# EAGLE library part C8051F016 (library micro-silabs)
Mixed-Signal 32KB ISP FLASH MCU
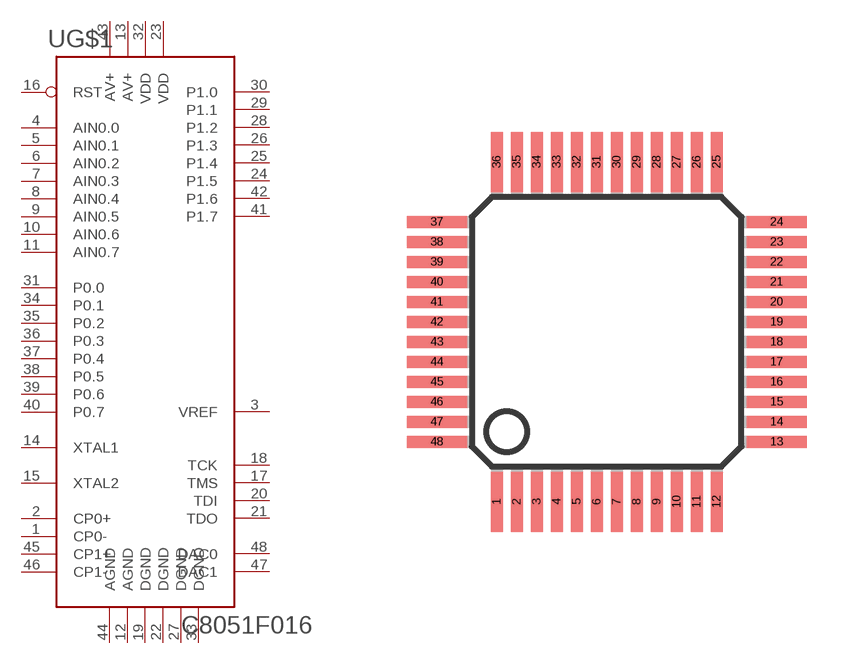
[diagram p22: symbol with the pads of TQFP48; footprint TQFP48]

Designator prefix -; gates G$1=C8051F0XX_48 G$5=DGND G$4=DGND G$2=AV G$3=AGND G$6=VDD G$7=DGND

## C8051F016  [TQFP48]
1  G$1:CP0-  in
2  G$1:CP0+  in
3  G$1:VREF
4  G$1:AIN0.0  in
5  G$1:AIN0.1  in
6  G$1:AIN0.2  in
7  G$1:AIN0.3  in
8  G$1:AIN0.4  in
9  G$1:AIN0.5  in
10  G$1:AIN0.6  in
11  G$1:AIN0.7  in
12  G$1:AGND  pwr
13  G$1:AV+  pwr
14  G$1:XTAL1  in
15  G$1:XTAL2  out
16  G$1:RST
17  G$1:TMS  in
18  G$1:TCK  in
19  G$5:DGND  pwr
20  G$1:TDI  in
21  G$1:TDO  out
22  G$1:DGND  pwr
23  G$1:VDD  pwr
24  G$1:P1.5
25  G$1:P1.4
26  G$1:P1.3
27  G$4:DGND  pwr
28  G$1:P1.2
29  G$1:P1.1
30  G$1:P1.0
31  G$1:P0.0
32  G$6:VDD  pwr
33  G$7:DGND  pwr
34  G$1:P0.1
35  G$1:P0.2
36  G$1:P0.3
37  G$1:P0.4
38  G$1:P0.5
39  G$1:P0.6
40  G$1:P0.7
41  G$1:P1.7
42  G$1:P1.6
43  G$2:AV+  pwr
44  G$3:AGND  pwr
45  G$1:CP1+  in
46  G$1:CP1-  in
47  G$1:DAC1  out
48  G$1:DAC0  out

## Footprint TQFP48 (pad centres in mm)
Thin Quad Flat Pack
smd 0.3 x 1.5: 1 -2.75,-4.25; 2 -2.25,-4.25; 3 -1.75,-4.25; 4 -1.25,-4.25; 5 -0.75,-4.25; 6 -0.25,-4.25; 7 0.25,-4.25; 8 0.75,-4.25; 9 1.25,-4.25; 10 1.75,-4.25; 11 2.25,-4.25; 12 2.75,-4.25; 25 2.75,4.25; 26 2.25,4.25; 27 1.75,4.25; 28 1.25,4.25; 29 0.75,4.25; 30 0.25,4.25; 31 -0.25,4.25; 32 -0.75,4.25; 33 -1.25,4.25; 34 -1.75,4.25; 35 -2.25,4.25; 36 -2.75,4.25
smd 1.5 x 0.3: 13 4.25,-2.75; 14 4.25,-2.25; 15 4.25,-1.75; 16 4.25,-1.25; 17 4.25,-0.75; 18 4.25,-0.25; 19 4.25,0.25; 20 4.25,0.75; 21 4.25,1.25; 22 4.25,1.75; 23 4.25,2.25; 24 4.25,2.75; 37 -4.25,2.75; 38 -4.25,2.25; 39 -4.25,1.75; 40 -4.25,1.25; 41 -4.25,0.75; 42 -4.25,0.25; 43 -4.25,-0.25; 44 -4.25,-0.75; 45 -4.25,-1.25; 46 -4.25,-1.75; 47 -4.25,-2.25; 48 -4.25,-2.75